# EAGLE library part MICRO-SD-CARD-HOLDER-9P (library Connector)
320090008
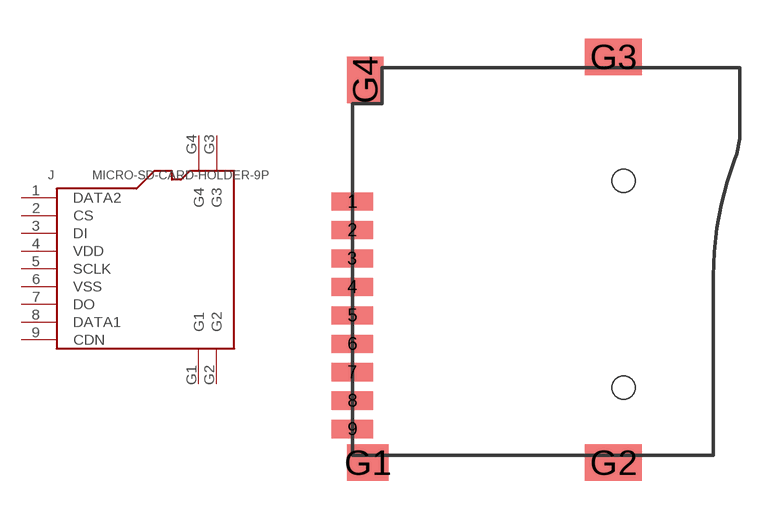
[diagram p12: symbol with the pads of 9+4P-SMD-L16.1*W14.5*H1.85MM; footprint 9+4P-SMD-L16.1*W14.5*H1.85MM]

Designator prefix J

## MICRO-SD-CARD-HOLDER-9P'MICROSD-9P'  [9+4P-SMD-L16.1*W14.5*H1.85MM]
1  DATA2
2  CS
3  DI
4  VDD
5  SCLK
6  VSS
7  DO
8  DATA1
9  CDN
G1  G1
G2  G2
G3  G3
G4  G4

## Footprint 9+4P-SMD-L16.1*W14.5*H1.85MM (pad centres in mm)
smd 1.6 x 0.7: 1 0,2.25; 2 0,1.15; 3 0,0.05; 4 0,-1.05; 5 0,-2.15; 6 0,-3.25; 7 0,-4.35; 8 0,-5.45; 9 0,-6.55
smd 1.6 x 1.4: G1 0.6,-7.85
smd 2.2 x 1.4: G2 10.1,-7.85; G3 10.1,7.85
smd 1.4 x 1.8: G4 0.5,6.95
hole 0.9 at 10.5,-4.95
hole 0.9 at 10.5,3.05